# Altium schematic symbol library GCJ188C70J475KE02D.SchLib: 1 symbol
Pins are listed as number, name and electrical type; pins without a type are passive.

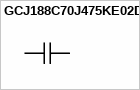
[diagram p0: symbol GCJ188C70J475KE02D]

## GCJ188C70J475KE02D
designator ?
CAP CER 4.7UF 6.3V X7S 0603
pins: 1, 2 1